# Altium footprint library DQ1225.PcbLib: 4 footprints
Each footprint in its own frame and in the unit in brackets; x right, y up, seen from the top. Pads: shape width x height; smd on the part's side, far side on the other; paste and mask are expansions set on the pad; w line width, h text height; cw(c..) or ccw(c..) is an arc to the next point about the centre after c.
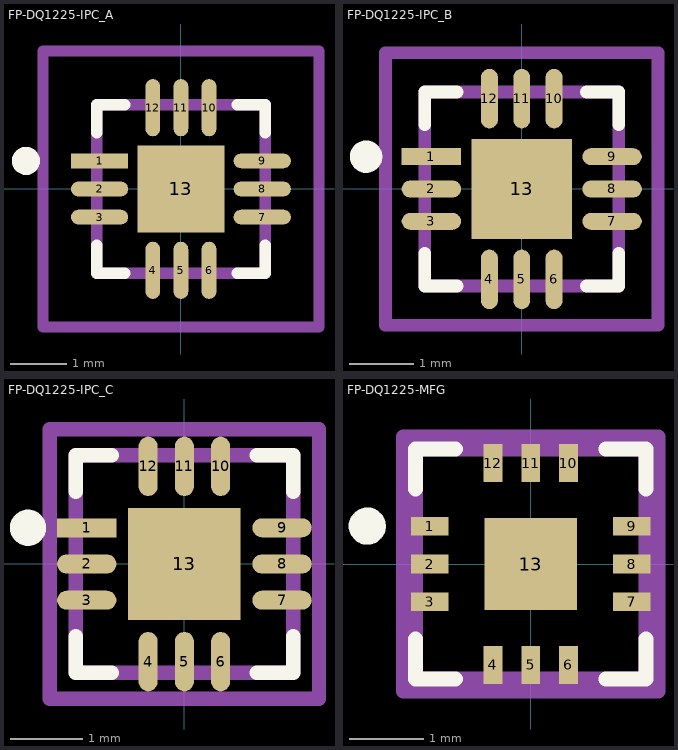
[diagram p0: the footprints below, top view; thin cyan lines are the x and y axes]

## FP-DQ1225-IPC_A [mm]
pads (13):
  rect 1.019x0.262 smd paste+0 mask+0: 1(-1.447,0.5)
  rrect100% 1.019x0.262 smd paste+0 mask+0: 2(-1.447,0) 3(-1.447,-0.5) 7(1.447,-0.5) 8(1.447,0) 9(1.447,0.5)
  rrect100% 0.262x1.019 smd paste+0 mask+0: 4(-0.5,-1.447) 5(0,-1.447) 6(0.5,-1.447) 10(0.5,1.447) 11(0,1.447) 12(-0.5,1.447)
  rect 1.549x1.549 smd paste-1000 mask+0: 13(0,0)
Top Overlay:
  circle w0.25: c-2.757,0.5 r0.125
  lines w0.2: -1.5,-1 -1.5,-1.5 -1,-1.5 ; -1.5,1 -1.5,1.5 -1,1.5 ; 1,-1.5 1.5,-1.5 1.5,-1 ; 1,1.5 1.5,1.5 1.5,1
Top Paste:
  rectangle: -0.49,-0.49 0.49,0.49
Top Assembly:
  lines w0.2: -2.457,-2.457 -2.457,2.457 2.457,2.457 2.457,-2.457 -2.457,-2.457
  text ".Designator" at 0,0.187 h1
Top 3D Body:
  lines w0.2: -1.5,-1.5 -1.5,1.5 1.5,1.5 1.5,-1.5 -1.5,-1.5
Top Courtyard:
  lines w0.2: -2.457,-2.457 -2.457,2.457 2.457,2.457 2.457,-2.457 -2.457,-2.457
Top Component Center:
  lines w0.1: -0.5,0 0.5,0 ; 0,-0.5 0,0.5
3D body "IC_Mini-Circuits_PMA3-83LN+_eec.STEP": height 0.25, standoff 0, extent -2.457,-2.457 2.457,2.457

## FP-DQ1225-IPC_B [mm]
pads (13):
  rect 0.919x0.262 smd paste+0 mask+0: 1(-1.397,0.5)
  rrect100% 0.919x0.262 smd paste+0 mask+0: 2(-1.397,0) 3(-1.397,-0.5) 7(1.397,-0.5) 8(1.397,0) 9(1.397,0.5)
  rrect100% 0.262x0.919 smd paste+0 mask+0: 4(-0.5,-1.397) 5(0,-1.397) 6(0.5,-1.397) 10(0.5,1.397) 11(0,1.397) 12(-0.5,1.397)
  rect 1.549x1.549 smd paste-1000 mask+0: 13(0,0)
Top Overlay:
  circle w0.25: c-2.407,0.5 r0.125
  lines w0.2: -1.5,-1 -1.5,-1.5 -1,-1.5 ; -1.5,1 -1.5,1.5 -1,1.5 ; 1,-1.5 1.5,-1.5 1.5,-1 ; 1,1.5 1.5,1.5 1.5,1
Top Paste:
  rectangle: -0.49,-0.49 0.49,0.49
Top Assembly:
  lines w0.2: -2.107,-2.107 -2.107,2.107 2.107,2.107 2.107,-2.107 -2.107,-2.107
  text ".Designator" at 0,0.187 h1
Top 3D Body:
  lines w0.2: -1.5,-1.5 -1.5,1.5 1.5,1.5 1.5,-1.5 -1.5,-1.5
Top Courtyard:
  lines w0.2: -2.107,-2.107 -2.107,2.107 2.107,2.107 2.107,-2.107 -2.107,-2.107
Top Component Center:
  lines w0.1: -0.5,0 0.5,0 ; 0,-0.5 0,0.5
3D body "IC_Mini-Circuits_PMA3-83LN+_eec.STEP": height 0.25, standoff 0, extent -2.107,-2.107 2.107,2.107

## FP-DQ1225-IPC_C [mm]
pads (13):
  rect 0.819x0.262 smd paste+0 mask+0: 1(-1.347,0.5)
  rrect100% 0.819x0.262 smd paste+0 mask+0: 2(-1.347,0) 3(-1.347,-0.5) 7(1.347,-0.5) 8(1.347,0) 9(1.347,0.5)
  rrect100% 0.262x0.819 smd paste+0 mask+0: 4(-0.5,-1.347) 5(0,-1.347) 6(0.5,-1.347) 10(0.5,1.347) 11(0,1.347) 12(-0.5,1.347)
  rect 1.549x1.549 smd paste-1000 mask+0: 13(0,0)
Top Overlay:
  circle w0.25: c-2.157,0.5 r0.125
  lines w0.2: -1.5,-1 -1.5,-1.5 -1,-1.5 ; -1.5,1 -1.5,1.5 -1,1.5 ; 1,-1.5 1.5,-1.5 1.5,-1 ; 1,1.5 1.5,1.5 1.5,1
Top Paste:
  rectangle: -0.49,-0.49 0.49,0.49
Top Assembly:
  lines w0.2: -1.857,-1.857 -1.857,1.857 1.857,1.857 1.857,-1.857 -1.857,-1.857
  text ".Designator" at 0,0.187 h1
Top 3D Body:
  lines w0.2: -1.5,-1.5 -1.5,1.5 1.5,1.5 1.5,-1.5 -1.5,-1.5
Top Courtyard:
  lines w0.2: -1.857,-1.857 -1.857,1.857 1.857,1.857 1.857,-1.857 -1.857,-1.857
Top Component Center:
  lines w0.1: -0.5,0 0.5,0 ; 0,-0.5 0,0.5
3D body "IC_Mini-Circuits_PMA3-83LN+_eec.STEP": height 0.25, standoff 0, extent -1.857,-1.857 1.857,1.857

## FP-DQ1225-MFG [mil]
pads (13):
  rect 20x10 smd paste+0 mask+0: 1(-53.5,20) 2(-53.5,0) 3(-53.5,-20) 7(53.5,-20) 8(53.5,0) 9(53.5,20)
  rect 10x20 smd paste+0 mask+0: 4(-20,-53.5) 5(0,-53.5) 6(20,-53.5) 10(20,53.5) 11(0,53.5) 12(-20,53.5)
  rect 49x49 smd paste+0 mask+0: 13(0,0)
Top Overlay:
  circle w9.84: c-86.59,20.08 r4.92
  lines w7.87: -61,-39.76 -61,-61 -39.76,-61 ; -61,39.76 -61,61 -39.76,61 ; 39.76,-61 61,-61 61,-39.76 ; 39.76,61 61,61 61,39.76
Top Assembly:
  lines w7.87: -67.44,-67.44 -67.44,67.44 67.44,67.44 67.44,-67.44 -67.44,-67.44
  text ".Designator" at 0,7.38 h39.37
Top 3D Body:
  lines w7.87: -61,-61 -61,61 61,61 61,-61 -61,-61
Top Courtyard:
  lines w7.87: -67.44,-67.44 -67.44,67.44 67.44,67.44 67.44,-67.44 -67.44,-67.44
Top Component Center:
  lines w3.94: -19.68,0 19.68,0 ; 0,-19.68 0,19.68
3D body "IC_Mini-Circuits_PMA3-83LN+_eec.STEP": height 10, standoff 0, extent -67.44,-67.44 67.44,67.44